# Altium footprint library MSOP-10.PcbLib: 1 footprints
Each footprint in its own frame and in the unit in brackets; x right, y up, seen from the top. Pads: shape width x height; smd on the part's side, far side on the other; paste and mask are expansions set on the pad; w line width, h text height; cw(c..) or ccw(c..) is an arc to the next point about the centre after c.
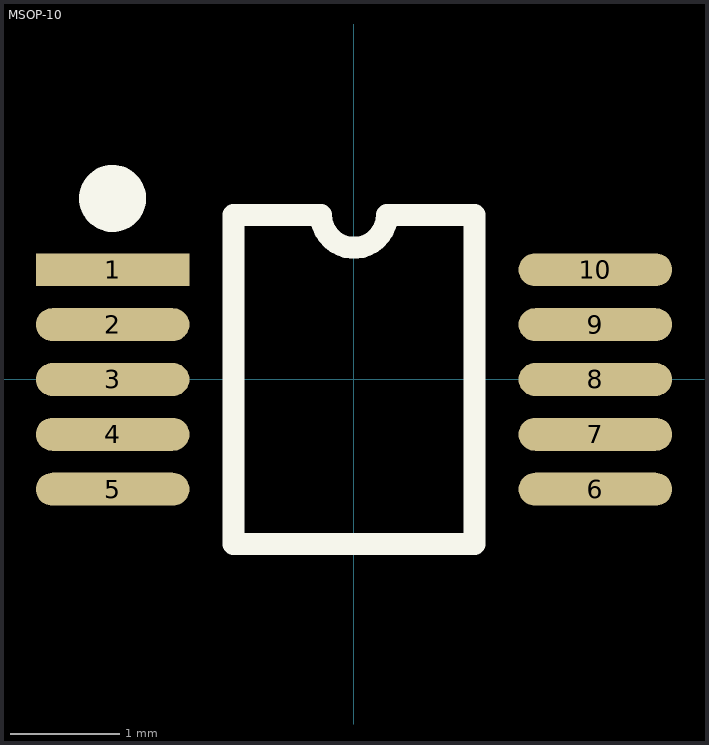
[diagram p0: the footprint, top view; thin cyan lines are the x and y axes]

## MSOP-10 [mm]
pads (10):
  rect 1.4x0.3 smd mask+0.05: 1(-2.2,1)
  oval 1.4x0.3 smd mask+0.05: 2(-2.2,0.5) 3(-2.2,0) 4(-2.2,-0.5) 5(-2.2,-1) 6(2.2,-1) 7(2.2,-0.5) 8(2.2,0) 9(2.2,0.5) 10(2.2,1)
Top Overlay:
  circle w0.31: c-2.2,1.65 r0.15
  lines w0.2: -1.1,-1.5 1.1,-1.5 1.1,1.5 0.3,1.5 cw(c0,1.5) -0.3,1.5 -1.1,1.5 -1.1,-1.5
3D body: height 1.1, standoff 0, extent -1.5,-1.5 1.5,1.5